# EAGLE library part TB6600FG (library SW_Motor)
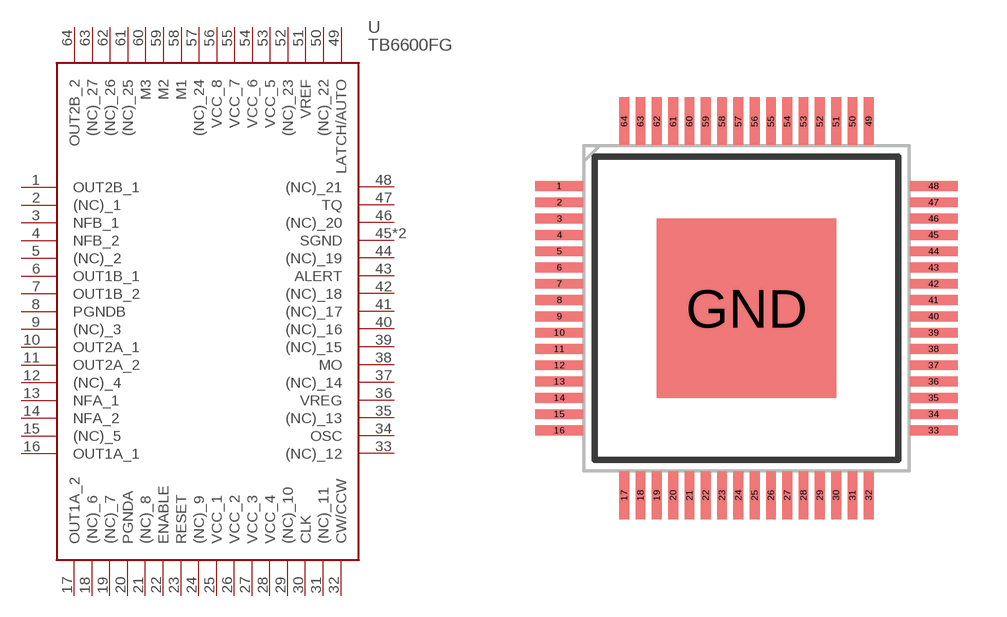
[diagram p1: symbol with the pads of QFP50P1200X1200X120-64N; footprint QFP50P1200X1200X120-64N]

Designator prefix U

## TB6600FG (CATEGORY: Motor; DESCRIPTION: Motor / Motion / Ignition Controllers & Drivers Stepping Motor Driver IC 4.5A; MFGS: Toshiba; MPNS: TB6600FG; PACKAGE: TQFP-64)  [QFP50P1200X1200X120-64N]
1  OUT2B_1
2  (NC)_1
3  NFB_1
4  NFB_2
5  (NC)_2
6  OUT1B_1
7  OUT1B_2
8  PGNDB
9  (NC)_3
10  OUT2A_1
11  OUT2A_2
12  (NC)_4
13  NFA_1
14  NFA_2
15  (NC)_5
16  OUT1A_1
17  OUT1A_2
18  (NC)_6
19  (NC)_7
20  PGNDA
21  (NC)_8
22  ENABLE
23  RESET
24  (NC)_9
25  VCC_1
26  VCC_2
27  VCC_3
28  VCC_4
29  (NC)_10
30  CLK
31  (NC)_11
32  CW/CCW
33  (NC)_12
34  OSC
35  (NC)_13
36  VREG
37  (NC)_14
38  MO
39  (NC)_15
40  (NC)_16
41  (NC)_17
42  (NC)_18
43  ALERT
44  (NC)_19
45  SGND
46  (NC)_20
47  TQ
48  (NC)_21
49  LATCH/AUTO
50  (NC)_22
51  VREF
52  (NC)_23
53  VCC_5
54  VCC_6
55  VCC_7
56  VCC_8
57  (NC)_24
58  M1
59  M2
60  M3
61  (NC)_25
62  (NC)_26
63  (NC)_27
64  OUT2B_2
GND  SGND

## Footprint QFP50P1200X1200X120-64N (pad centres in mm)
TB6600FG-1
smd 1.475 x 0.3: 1 -5.738,3.75; 2 -5.738,3.25; 3 -5.738,2.75; 4 -5.738,2.25; 5 -5.738,1.75; 6 -5.738,1.25; 7 -5.738,0.75; 8 -5.738,0.25; 9 -5.738,-0.25; 10 -5.738,-0.75; 11 -5.738,-1.25; 12 -5.738,-1.75; 13 -5.738,-2.25; 14 -5.738,-2.75; 15 -5.738,-3.25; 16 -5.738,-3.75; 33 5.738,-3.75; 34 5.738,-3.25; 35 5.738,-2.75; 36 5.738,-2.25; 37 5.738,-1.75; 38 5.738,-1.25; 39 5.738,-0.75; 40 5.738,-0.25; 41 5.738,0.25; 42 5.738,0.75; 43 5.738,1.25; 44 5.738,1.75; 45 5.738,2.25; 46 5.738,2.75; 47 5.738,3.25; 48 5.738,3.75
smd 0.3 x 1.475: 17 -3.75,-5.738; 18 -3.25,-5.738; 19 -2.75,-5.738; 20 -2.25,-5.738; 21 -1.75,-5.738; 22 -1.25,-5.738; 23 -0.75,-5.738; 24 -0.25,-5.738; 25 0.25,-5.738; 26 0.75,-5.738; 27 1.25,-5.738; 28 1.75,-5.738; 29 2.25,-5.738; 30 2.75,-5.738; 31 3.25,-5.738; 32 3.75,-5.738; 49 3.75,5.738; 50 3.25,5.738; 51 2.75,5.738; 52 2.25,5.738; 53 1.75,5.738; 54 1.25,5.738; 55 0.75,5.738; 56 0.25,5.738; 57 -0.25,5.738; 58 -0.75,5.738; 59 -1.25,5.738; 60 -1.75,5.738; 61 -2.25,5.738; 62 -2.75,5.738; 63 -3.25,5.738; 64 -3.75,5.738
smd 5.5 x 5.5: GND 0,0